# EAGLE library part PIC18F6*J6 (library EW_IC_Processors)
PIC18F97J60 Family 64/80/100-Pin High-Performance, 1-Mbit Flash Microcontrollers with Ethernet Source: http://ww1.microchip.com/downloads/en/DeviceDoc/39762d.pdf
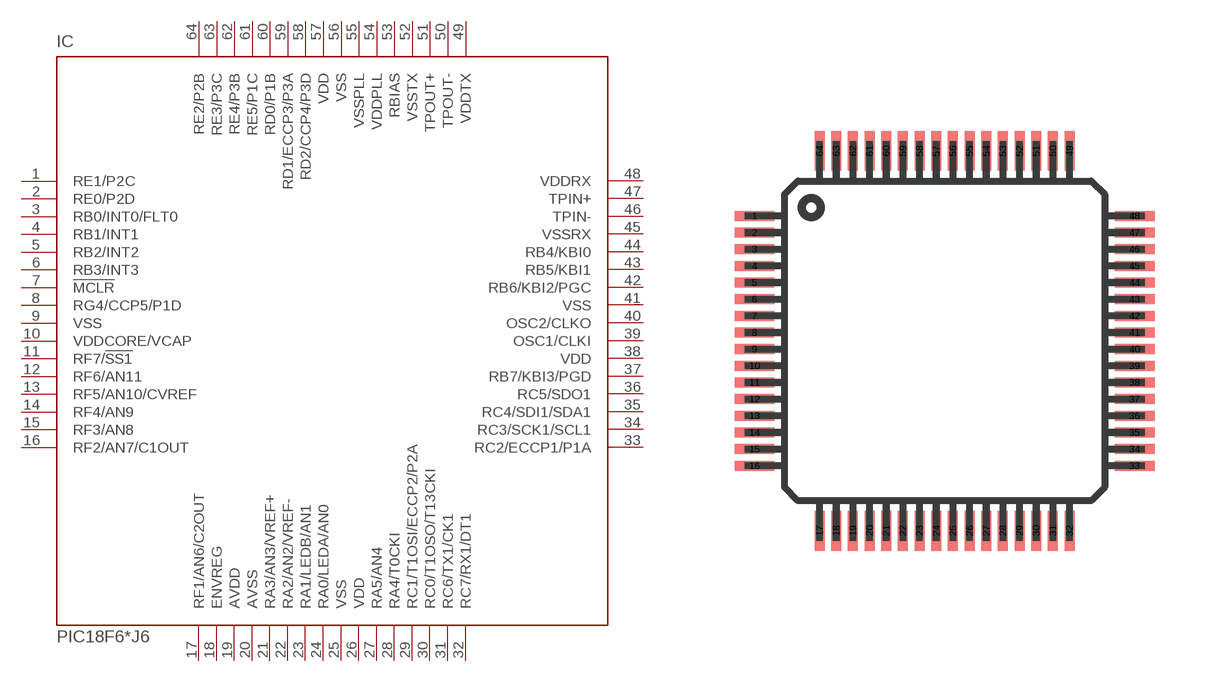
[diagram p96: symbol with the pads of TQFP64-10X10; footprint TQFP64-10X10]

Designator prefix IC

## PIC18F66J60 (MPN: PIC18F66J60-I/PT; OC_FARNELL: 1332282; OC_NEWARK: 56K7296), PIC18F67J60 (MPN: PIC18F67J60-I/PT; OC_FARNELL: 1332285; OC_NEWARK: 56K7302)  [TQFP64-10X10]
1  RE1/P2C
2  RE0/P2D
3  RB0/INT0/FLT0
4  RB1/INT1
5  RB2/INT2
6  RB3/INT3
7  !MCLR
8  RG4/CCP5/P1D
9  VSS
10  VDDCORE/VCAP
11  RF7/!SS1
12  RF6/AN11
13  RF5/AN10/CVREF
14  RF4/AN9
15  RF3/AN8
16  RF2/AN7/C1OUT
17  RF1/AN6/C2OUT
18  ENVREG
19  AVDD
20  AVSS
21  RA3/AN3/VREF+
22  RA2/AN2/VREF-
23  RA1/LEDB/AN1
24  RA0/LEDA/AN0
25  VSS
26  VDD
27  RA5/AN4
28  RA4/T0CKI
29  RC1/T1OSI/ECCP2/P2A
30  RC0/T1OSO/T13CKI
31  RC6/TX1/CK1
32  RC7/RX1/DT1
33  RC2/ECCP1/P1A
34  RC3/SCK1/SCL1
35  RC4/SDI1/SDA1
36  RC5/SDO1
37  RB7/KBI3/PGD
38  VDD
39  OSC1/CLKI
40  OSC2/CLKO
41  VSS
42  RB6/KBI2/PGC
43  RB5/KBI1
44  RB4/KBI0
45  VSSRX
46  TPIN-
47  TPIN+
48  VDDRX
49  VDDTX
50  TPOUT-
51  TPOUT+
52  VSSTX
53  RBIAS
54  VDDPLL
55  VSSPLL
56  VSS
57  VDD
58  RD2/CCP4/P3D
59  RD1/ECCP3/P3A
60  RD0/P1B
61  RE5/P1C
62  RE4/P3B
63  RE3/P3C
64  RE2/P2B

## PIC18F66J65 (MPN: PIC18F66J65-I/PT; OC_FARNELL: 1579612; OC_NEWARK: 56K7298)  [TQFP64-10X10]
Pads as for TQFP64-10X10

## Footprint TQFP64-10X10 (pad centres in mm)
Thin Quad Flat Pack package type TQ
smd 1.2 x 0.3: 1 -5.7,3.75; 2 -5.7,3.25; 3 -5.7,2.75; 4 -5.7,2.25; 5 -5.7,1.75; 6 -5.7,1.25; 7 -5.7,0.75; 8 -5.7,0.25; 9 -5.7,-0.25; 10 -5.7,-0.75; 11 -5.7,-1.25; 12 -5.7,-1.75; 13 -5.7,-2.25; 14 -5.7,-2.75; 15 -5.7,-3.25; 16 -5.7,-3.75; 33 5.7,-3.75; 34 5.7,-3.25; 35 5.7,-2.75; 36 5.7,-2.25; 37 5.7,-1.75; 38 5.7,-1.25; 39 5.7,-0.75; 40 5.7,-0.25; 41 5.7,0.25; 42 5.7,0.75; 43 5.7,1.25; 44 5.7,1.75; 45 5.7,2.25; 46 5.7,2.75; 47 5.7,3.25; 48 5.7,3.75
smd 0.3 x 1.2: 17 -3.75,-5.7; 18 -3.25,-5.7; 19 -2.75,-5.7; 20 -2.25,-5.7; 21 -1.75,-5.7; 22 -1.25,-5.7; 23 -0.75,-5.7; 24 -0.25,-5.7; 25 0.25,-5.7; 26 0.75,-5.7; 27 1.25,-5.7; 28 1.75,-5.7; 29 2.25,-5.7; 30 2.75,-5.7; 31 3.25,-5.7; 32 3.75,-5.7; 49 3.75,5.7; 50 3.25,5.7; 51 2.75,5.7; 52 2.25,5.7; 53 1.75,5.7; 54 1.25,5.7; 55 0.75,5.7; 56 0.25,5.7; 57 -0.25,5.7; 58 -0.75,5.7; 59 -1.25,5.7; 60 -1.75,5.7; 61 -2.25,5.7; 62 -2.75,5.7; 63 -3.25,5.7; 64 -3.75,5.7